# Altium integrated library Nexperia_PMEG2005EB.IntLib: 1 symbol
Pins are listed as number, name and electrical type; pins without a type are passive.

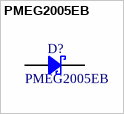
[diagram p0: symbol PMEG2005EB]

## PMEG2005EB
designator D?
Manufacturer: Nexperia; PackageReference: SOD-523F-2; HelpURL: https://assets.nexperia.com/documents/data-sheet/PMEG2005EB.pdf; Model: PMEG2005EB
footprint NXP-SOD-523F-2_V (SMD, 2-Leads, Body 1.2x0.8mm, Height 0.7mm)
pins: 1, 2